# Altium schematic symbol library Project_Xe_Can_Bang.SchLib: 7 symbols
Pins are listed as number, name and electrical type; pins without a type are passive.

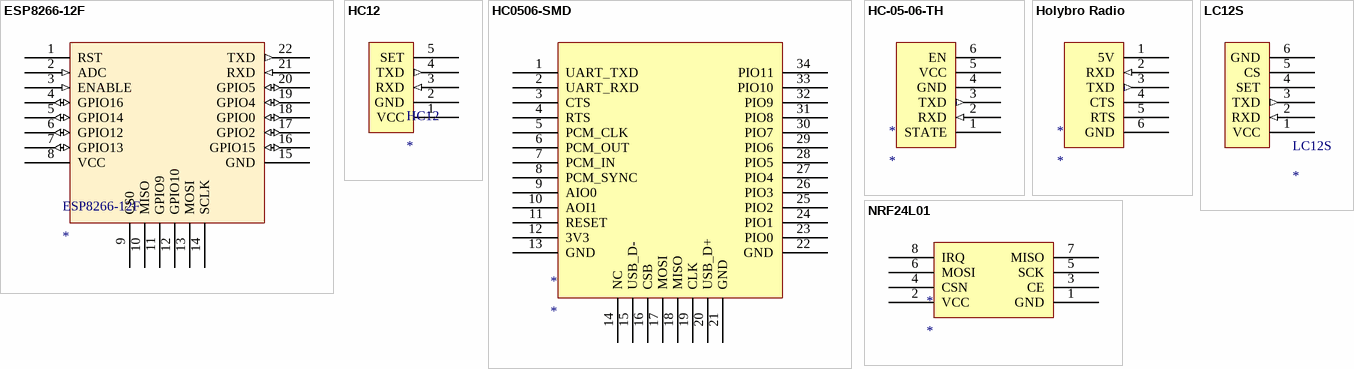
[diagram p0: symbols ESP8266-12F to NRF24L01]

## ESP8266-12F
designator ESP8266-12F
Local Supplier Part Number: HS000912; Local Supplier: Hshop; Local Supplier Link: https://hshop.vn/products/mach-thu-phat-wifi-soc-esp8266-v12; Manufacturer: *; Manufacturer Part Number: *
footprint ESP8266 -12F
pins: 1 RST, 2 ADC (in), 3 ENABLE (in), 4 GPIO16 (io), 5 GPIO14 (io), 6 GPIO12 (io), 7 GPIO13 (io), 8 VCC (power), 9 CS0, 10 MISO, 11 GPIO9, 12 GPIO10, 13 MOSI, 14 SCLK, 15 GND, 16 GPIO15 (io), 17 GPIO2 (io), 18 GPIO0 (io), 19 GPIO4 (io), 20 GPIO5 (io), 21 RXD (in), 22 TXD (out)

## HC12
designator HC12
Local Supplier: Hshop; Local Supplier Link: *; Local Supplier Part Number: HS000897; Manufacturer: *; Manufacturer Part Number: *
footprint HC12
pins: 1 VCC (power), 2 GND, 3 RXD (in), 4 TXD (out), 5 SET

## HC0506-SMD
designator *
footprint HC0506-SMD
pins: 1 UART_TXD, 2 UART_RXD, 3 CTS, 4 RTS, 5 PCM_CLK, 6 PCM_OUT, 7 PCM_IN, 8 PCM_SYNC, 9 AIO0, 10 AOI1, 11 RESET, 12 3V3 (power), 13 GND, 14 NC, 15 USB_D-, 16 CSB, 17 MOSI, 18 MISO, 19 CLK, 20 USB_D+, 21 GND, 22 GND, 23 PIO0, 24 PIO1, 25 PIO2, 26 PIO3, 27 PIO4, 28 PIO5, 29 PIO6, 30 PIO7, 31 PIO8, 32 PIO9, 33 PIO10, 34 PIO11

## HC-05-06-TH
designator *
footprint HC-05-06-TH
pins: 1 STATE, 2 RXD (in), 3 TXD (out), 4 GND, 5 VCC (power), 6 EN

## Holybro Radio
designator *
Local Supplier: Hshop; Local Supplier Link: https://hshop.vn/products/mach-thu-phat-nrf24l01-pa-2-4ghzcu-khech-dai-cung-suat-thu-phat; Local Supplier Part Number: HS000888; Manufacturer: *; Manufacturer Part Number: *
footprint HOLYBRO RADIO
pins: 1 5V (power), 2 RXD (in), 3 TXD (out), 4 CTS, 5 RTS, 6 GND

## LC12S
designator LC12S
Local Supplier: Hshop; Local Supplier Link: https://hshop.vn/products/mach-thu-phat-rf-uart-lc12s-2-4ghz?fbclid=IwAR2L-MsvU8GKf2GzLKyvyIpss8E66Xss7oKtSqysyXfDoF1CNm9bYauvrFU; Local Supplier Part Number: HS000895; Manufacter: *; Manufacter Part Number: *
footprint LC12S
pins: 1 VCC (power), 2 RXD (in), 3 TXD (out), 4 SET, 5 CS, 6 GND (power)

## NRF24L01
designator *
footprint NRF24L01
pins: 1 GND, 2 VCC (power), 3 CE, 4 CSN, 5 SCK, 6 MOSI, 7 MISO, 8 IRQ